# EAGLE library part SLG46534V (library GREENPAK)
GreenPAK5 SLG46534V Silego Technology www.silego.com
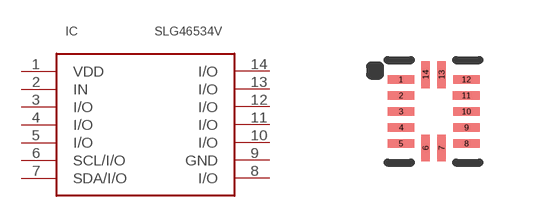
[diagram p13: symbol with the pads of STQFN-14-2.0X2.2_N; footprint STQFN-14-2.0X2.2_N]

Designator prefix IC

## SLG46534V  [STQFN-14-2.0X2.2_N]
1  VDD
2  IN
3  I/O
4  I/O
5  I/O
6  SCL/I/O
7  SDA/I/O
8  I/O
9  GND
10  I/O
11  I/O
12  I/O
13  I/O
14  I/O

## Footprint STQFN-14-2.0X2.2_N (pad centres in mm)
smd 0.665 x 0.21: 1 -0.817,0.8; 2 -0.818,0.4; 3 -0.818,0; 4 -0.818,-0.4; 5 -0.818,-0.8; 8 0.818,-0.8; 9 0.818,-0.4; 10 0.818,0; 11 0.817,0.401; 12 0.818,0.8
smd 0.21 x 0.665: 6 -0.2,-0.917; 7 0.2,-0.917; 13 0.2,0.917; 14 -0.2,0.917